# EAGLE library part TPS54226PWPR (library maholli)
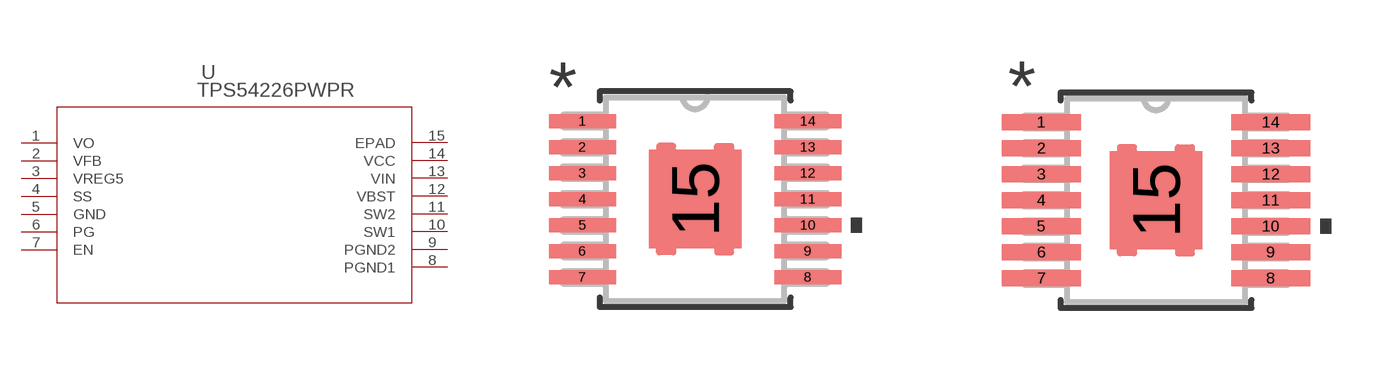
[diagram p4: symbol with the pads of PWP14_2P31X2P46; footprints PWP14_2P31X2P46, PWP14_2P31X2P46-M]

Designator prefix U

## TPS54226PWPR (MANUFACTURER_PART_NUMBER: TPS54226PWPR; VENDOR: Texas Instruments)  [PWP14_2P31X2P46]
1  VO  out
2  VFB  in
3  VREG5  out
4  SS  pas
5  GND  pwr
6  PG  out
7  EN  in
8  PGND1  pwr
9  PGND2  pwr
10  SW1  pas
11  SW2  pas
12  VBST  in
13  VIN  in
14  VCC  in
15  EPAD  pas

## TPS54226PWPRPWP14_2P31X2P46-M (MANUFACTURER_PART_NUMBER: TPS54226PWPR; VENDOR: Texas Instruments)  [PWP14_2P31X2P46-M]
Pads as for PWP14_2P31X2P46

## TPS54226PWPRPWP14_2P31X2P46-L (MANUFACTURER_PART_NUMBER: TPS54226PWPR; VENDOR: Texas Instruments)  [PWP14_2P31X2P46-L]
Pads as for PWP14_2P31X2P46

## Footprint PWP14_2P31X2P46 (pad centres in mm)
smd 1.676 x 0.356: 1 -2.819,1.95; 2 -2.819,1.3; 3 -2.819,0.65; 4 -2.819,0; 5 -2.819,-0.65; 6 -2.819,-1.3; 7 -2.819,-1.95; 8 2.819,-1.95; 9 2.819,-1.3; 10 2.819,-0.65; 11 2.819,0; 12 2.819,0.65; 13 2.819,1.3; 14 2.819,1.95
smd 2.31 x 2.46: 15 0,0

## Footprint PWP14_2P31X2P46-M (pad centres in mm)
smd 1.981 x 0.406: 1 -2.87,1.95; 2 -2.87,1.3; 3 -2.87,0.65; 4 -2.87,0; 5 -2.87,-0.65; 6 -2.87,-1.3; 7 -2.87,-1.95; 8 2.87,-1.95; 9 2.87,-1.3; 10 2.87,-0.65; 11 2.87,0; 12 2.87,0.65; 13 2.87,1.3; 14 2.87,1.95
smd 2.31 x 2.46: 15 0,0

## Footprint PWP14_2P31X2P46-L (pad centres in mm)
smd 1.6 x 0.305: 1 -2.769,1.95; 2 -2.769,1.3; 3 -2.769,0.65; 4 -2.769,0; 5 -2.769,-0.65; 6 -2.769,-1.3; 7 -2.769,-1.95; 8 2.769,-1.95; 9 2.769,-1.3; 10 2.769,-0.65; 11 2.769,0; 12 2.769,0.65; 13 2.769,1.3; 14 2.769,1.95
smd 2.31 x 2.46: 15 0,0